# Altium schematic symbol library vga_0.Schlib: 1 symbol
Pins are listed as number, name and electrical type; pins without a type are passive.

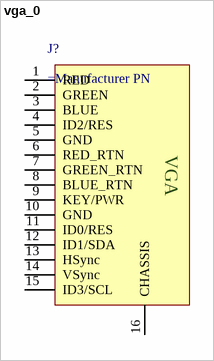
[diagram p0: symbol vga_0]

## vga_0
designator J?
15-pin VGA Connector
pins: 1 RED, 2 GREEN, 3 BLUE, 4 ID2/RES, 5 GND, 6 RED_RTN, 7 GREEN_RTN, 8 BLUE_RTN, 9 KEY/PWR, 10 GND, 11 ID0/RES, 12 ID1/SDA, 13 HSync, 14 VSync, 15 ID3/SCL, 16 CHASSIS
text: VGA